# Altium footprint library SCD30.PcbLib: 1 footprints
Each footprint in its own frame and in the unit in brackets; x right, y up, seen from the top. Pads: shape width x height; smd on the part's side, far side on the other; paste and mask are expansions set on the pad; w line width, h text height; cw(c..) or ccw(c..) is an arc to the next point about the centre after c.
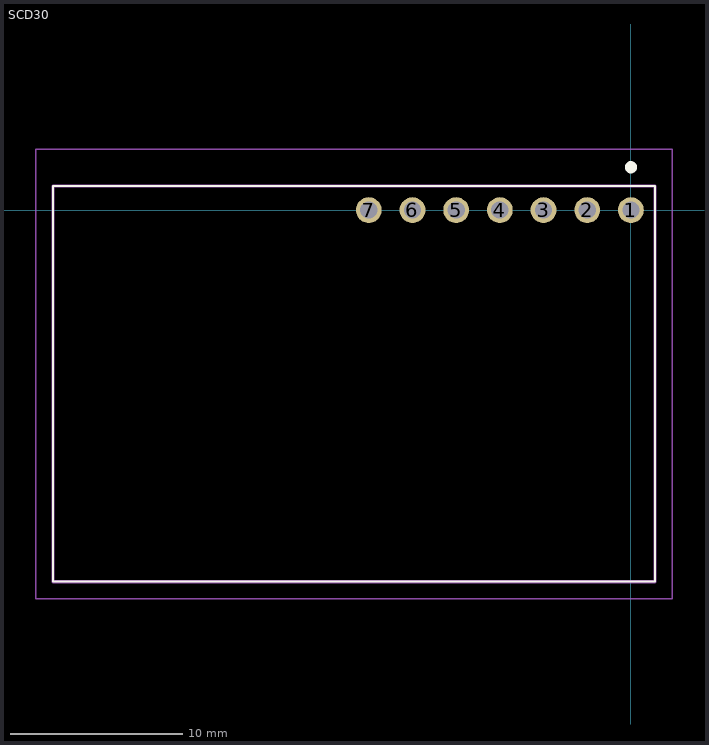
[diagram p0: the footprint, top view; thin cyan lines are the x and y axes]

## SCD30 [mm]
pads (7):
  round 1.5 hole 1: 1(0,0) 2(-2.54,0) 3(-5.08,0) 4(-7.62,0) 5(-10.16,0) 6(-12.7,0) 7(-15.24,0)
Top Overlay:
  lines w0.1: -33.6,-21.6 -33.6,1.4 1.4,1.4 1.4,-21.6 -33.6,-21.6
  lines w0.6: 0,2.44 ccw(c0,2.49) 0,2.54 ccw(c0,2.49) 0,2.44
Mechanical 15:
  lines w0.2: -33.6,-21.6 -33.6,1.4 1.4,1.4 1.4,-21.6 -33.6,-21.6
Mechanical 20:
  lines w0.1: -34.6,-22.6 -34.6,3.54 2.4,3.54 2.4,-22.6 -34.6,-22.6
3D body "SCD30.stp": height 1.55, standoff -5.45, extent -33.629,-21.66 1.371,1.34